# EAGLE library part TEXAS_INSTRUMENTS-SCHMITT_TRIGGER-SN74LVC3G17_DCU_8 (library Module_ICs)
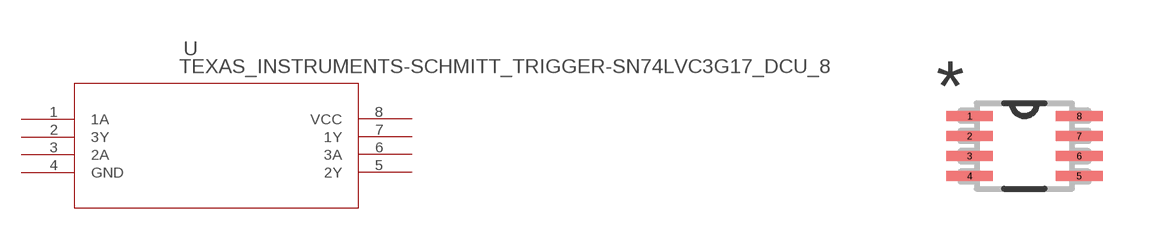
[diagram p7: symbol with the pads of TEXAS_INSTRUMENTS-MUX/DEMUX-SN74LVC2G157_DCU_8/SCHMITT_TRIGGER-SN74LVC3G17_DCU_8; footprint TEXAS_INSTRUMENTS-MUX/DEMUX-SN74LVC2G157_DCU_8/SCHMITT_TRIGGER-SN74LVC3G17_DCU_8]

Designator prefix U

## TEXAS_INSTRUMENTS-SCHMITT_TRIGGER-SN74LVC3G17_DCU_8 (DATASHEETURL: httpwww.ti.comlitgpnSN74LVC3G17; FAMILY_NAME: LL SCHMITT TRIGGER BUFFER; GENERIC_PART_NUMBER: SN74LVC3G17; INDUSTRY_STD_PKG_TYPE: US8; MANUFACTURER: Texas Instruments; MANUFACTURER_PART_NUMBER: sn74lvc3g17_dcu_8; PACKAGE_DESIGNATOR: DCU; PIN_COUNT: 8; VENDOR: Texas Instruments)  [TEXAS_INSTRUMENTS-MUX/DEMUX-SN74LVC2G157_DCU_8/SCHMITT_TRIGGER-SN74LVC3G17_DCU_8]
1  1A  in
2  3Y  out
3  2A  in
4  GND  pwr
5  2Y  out
6  3A  in
7  1Y  out
8  VCC  pwr

## Footprint TEXAS_INSTRUMENTS-MUX/DEMUX-SN74LVC2G157_DCU_8/SCHMITT_TRIGGER-SN74LVC3G17_DCU_8 (pad centres in mm)
smd 1.168 x 0.254: 1 -1.372,0.75; 2 -1.372,0.25; 3 -1.372,-0.25; 4 -1.372,-0.75; 5 1.372,-0.75; 6 1.372,-0.25; 7 1.372,0.25; 8 1.372,0.75